# EAGLE library part POT-DIGITAL (library MAAV)
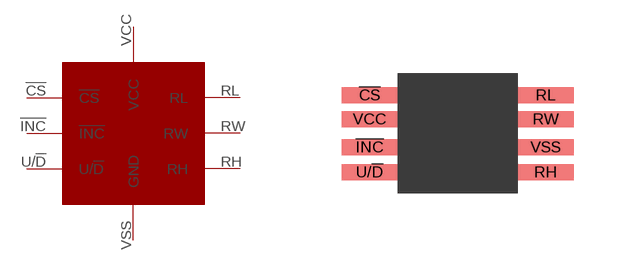
[diagram p11: symbol with the pads of POT-DIGITAL; footprint POT-DIGITAL]

Designator prefix -

## POT-DIGITAL (DIGIKEY: X9317ZS8IZ-2.7-ND)  [POT-DIGITAL]
!CS  !CS
!INC  !INC
RH  RH
RL  RL
RW  RW
U/!D  U/!D
VCC  VCC
VSS  GND

## Footprint POT-DIGITAL (pad centres in mm)
smd 1.4 x 0.4: !CS -1.702,0.45; !INC -1.702,-0.85; RH 2.7,-1.475; RL 2.7,0.45; RW 2.7,-0.15; U/!D -1.702,-1.475; VCC -1.702,-0.15; VSS 2.7,-0.85